# Altium schematic symbol library USB4120-03-C_REVA.SCHLIB: 1 symbol
Pins are listed as number, name and electrical type; pins without a type are passive.

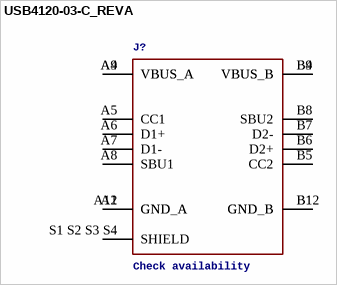
[diagram p0: symbol USB4120-03-C_REVA]

## USB4120-03-C_REVA
designator J?, comment Check availability
GateName_1: G$1; SymbolName_1: USB4120-03-C_REVA; MF: Global Connector Technology; MP: USB4120-03-C; LibraryName: USB4120-03-C_REVA; DeviceSetName: USB4120-03-C_REVA; Package: None; Price: None; Purchase-URL: https://pricing.snapeda.com/search/part/USB4120-03-C/?ref=eda; Availability: In Stock
footprint GCT_USB4120-03-C_REVA
pins: A1 GND_A (power), A4 VBUS_A (power), A5 CC1, A6 D1+, A7 D1-, A8 SBU1, A9 VBUS_A (power), A12 GND_A (power), B1 GND_B (power), B4 VBUS_B (power), B5 CC2, B6 D2+, B7 D2-, B8 SBU2, B9 VBUS_B (power), B12 GND_B (power), S1 S2 S3 S4 SHIELD